# EAGLE library part GB-CARTRIDGE-SLOT (library jrodrigo-gameboy)
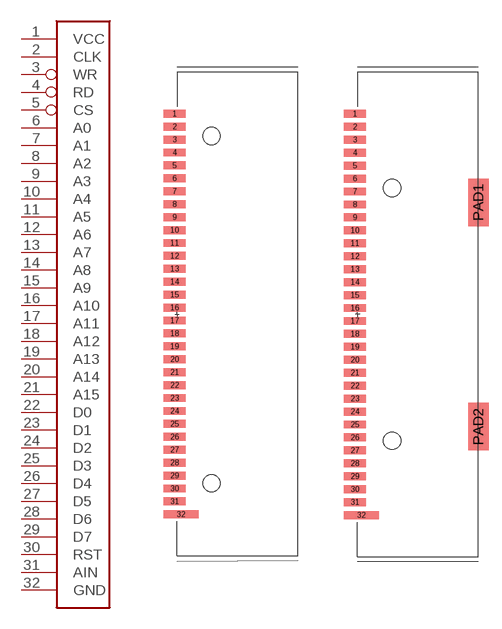
[diagram p6: symbol with the pads of GB-CARTRIDGE-SLOT-1; footprints GB-CARTRIDGE-SLOT-1, GB-CARTRIDGE-SLOT-2]

Designator prefix -

## GB-CARTRIDGE-SLOT  [GB-CARTRIDGE-SLOT-1]
1  VCC
2  CLK
3  WR
4  RD
5  CS
6  A0
7  A1
8  A2
9  A3
10  A4
11  A5
12  A6
13  A7
14  A8
15  A9
16  A10
17  A11
18  A12
19  A13
20  A14
21  A15
22  D0
23  D1
24  D2
25  D3
26  D4
27  D5
28  D6
29  D7
30  RST
31  AIN
32  GND

## GB-CARTRIDGE-SLOTV2  [GB-CARTRIDGE-SLOT-2]
1  VCC
2  CLK
3  WR
4  RD
5  CS
6  A0
7  A1
8  A2
9  A3
10  A4
11  A5
12  A6
13  A7
14  A8
15  A9
16  A10
17  A11
18  A12
19  A13
20  A14
21  A15
22  D0
23  D1
24  D2
25  D3
26  D4
27  D5
28  D6
29  D7
30  RST
31  AIN
32  GND
PAD1  GND
PAD2  GND

## GB-CARTRIDGE-SLOTV3  [GB-CARTRIDGE-SLOT-3]
Pads as for GB-CARTRIDGE-SLOT-2

## Footprint GB-CARTRIDGE-SLOT-1 (pad centres in mm)
smd 2.54 x 0.914: 1 -0.27,23.183; 2 -0.27,21.687; 3 -0.27,20.191; 4 -0.27,18.695; 5 -0.27,17.199; 6 -0.27,15.703; 7 -0.27,14.207; 8 -0.27,12.71; 9 -0.27,11.214; 10 -0.27,9.718; 11 -0.27,8.222; 12 -0.27,6.726; 13 -0.27,5.23; 14 -0.27,3.734; 15 -0.27,2.238; 16 -0.27,0.742; 17 -0.27,-0.754; 18 -0.27,-2.25; 19 -0.27,-3.746; 20 -0.27,-5.242; 21 -0.27,-6.738; 22 -0.27,-8.234; 23 -0.27,-9.73; 24 -0.27,-11.226; 25 -0.27,-12.723; 26 -0.27,-14.219; 27 -0.27,-15.715; 28 -0.27,-17.211; 29 -0.27,-18.707; 30 -0.27,-20.203; 31 -0.27,-21.699
smd 4 x 0.914: 32 0.46,-23.195
hole 2 at 4,20.6
hole 2 at 4,-19.6

## Footprint GB-CARTRIDGE-SLOT-2 (pad centres in mm)
smd 2.54 x 0.914: 1 -0.27,23.183; 2 -0.27,21.687; 3 -0.27,20.191; 4 -0.27,18.695; 5 -0.27,17.199; 6 -0.27,15.703; 7 -0.27,14.207; 8 -0.27,12.71; 9 -0.27,11.214; 10 -0.27,9.718; 11 -0.27,8.222; 12 -0.27,6.726; 13 -0.27,5.23; 14 -0.27,3.734; 15 -0.27,2.238; 16 -0.27,0.742; 17 -0.27,-0.754; 18 -0.27,-2.25; 19 -0.27,-3.746; 20 -0.27,-5.242; 21 -0.27,-6.738; 22 -0.27,-8.234; 23 -0.27,-9.73; 24 -0.27,-11.226; 25 -0.27,-12.723; 26 -0.27,-14.219; 27 -0.27,-15.715; 28 -0.27,-17.211; 29 -0.27,-18.707; 30 -0.27,-20.203; 31 -0.27,-21.699
smd 4 x 0.914: 32 0.46,-23.195
smd 2.4 x 5.5: PAD1 14,12.96; PAD2 14,-12.96
hole 2 at 4,14.606
hole 2 at 4,-14.606

## Footprint GB-CARTRIDGE-SLOT-3 (pad centres in mm)
smd 3.302 x 0.914: 1 -0.27,23.183; 2 -0.27,21.687; 3 -0.27,20.191; 4 -0.27,18.695; 5 -0.27,17.199; 6 -0.27,15.703; 7 -0.27,14.207; 8 -0.27,12.71; 9 -0.27,11.214; 10 -0.27,9.718; 11 -0.27,8.222; 12 -0.27,6.726; 13 -0.27,5.23; 14 -0.27,3.734; 15 -0.27,2.238; 16 -0.27,0.742; 17 -0.27,-0.754; 18 -0.27,-2.25; 19 -0.27,-3.746; 20 -0.27,-5.242; 21 -0.27,-6.738; 22 -0.27,-8.234; 23 -0.27,-9.73; 24 -0.27,-11.226; 25 -0.27,-12.723; 26 -0.27,-14.219; 27 -0.27,-15.715; 28 -0.27,-17.211; 29 -0.27,-18.707; 30 -0.27,-20.203; 31 -0.27,-21.699
smd 4.762 x 0.914: 32 0.46,-23.195
smd 2.4 x 5.5: PAD1 17.8,13; PAD2 17.8,-13
hole 2.5 at 7.2,13
hole 2.5 at 7.2,-13